# EAGLE library part JT8P-3.2T-B10K-1-16Y (library myparts)
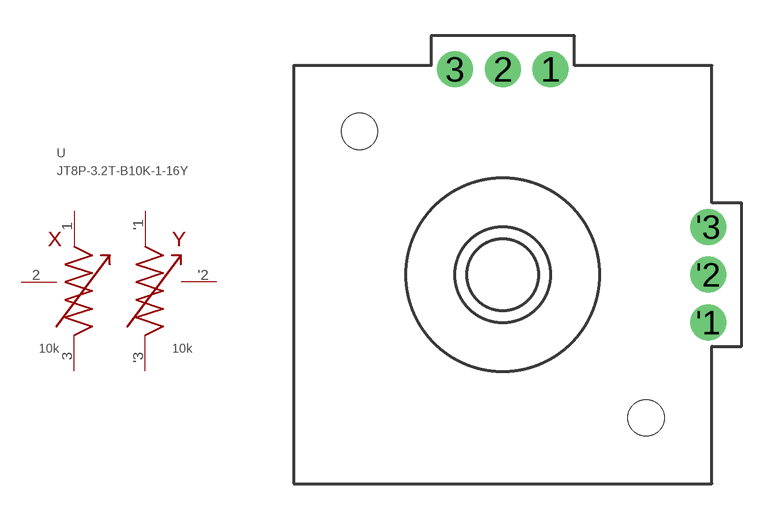
[diagram p15: symbol with the pads of JT8P-3.2T-B10K-1-16Y; footprint JT8P-3.2T-B10K-1-16Y]

Designator prefix -

## JT8P-3.2T-B10K-1-16Y  [JT8P-3.2T-B10K-1-16Y]
1  X_1
2  X_2
3  X_3
'1  Y_1
'2  Y_2
'3  Y_3

## Footprint JT8P-3.2T-B10K-1-16Y (pad centres in mm)
drill 1: 1 2,8.6; 2 0,8.6; 3 -2,8.6; '1 8.6,-2; '2 8.6,0; '3 8.6,2
hole 1.5 at 6,-6
hole 1.5 at -6,6